# EAGLE library part 14PINCONNECTOR (library 14_Pin_Connector)
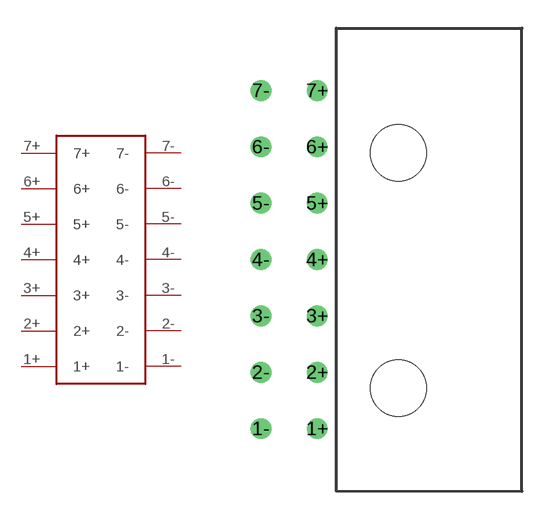
[diagram p0: symbol with the pads of 14PINCONVERTER; footprint 14PINCONVERTER]

Designator prefix -

## 14PINCONNECTOR  [14PINCONVERTER]
1+  1+
1-  1-
2+  2+
2-  2-
3+  3+
3-  3-
4+  4+
4-  4-
5+  5+
5-  5-
6+  6+
6-  6-
7+  7+
7-  7-

## Footprint 14PINCONVERTER (pad centres in mm)
drill 0.6: 1+ 3,0; 1- 0,0; 2+ 3,3; 2- 0,3; 3+ 3,6; 3- 0,6; 4+ 3,9; 4- 0,9; 5+ 3,12; 5- 0,12; 6+ 3,15; 6- 0,15; 7+ 3,18; 7- 0,18
hole 3 at 7.32,2.16
hole 3 at 7.32,14.68